# Altium footprint library MAX31856MUD.PcbLib: 1 footprints
Each footprint in its own frame and in the unit in brackets; x right, y up, seen from the top. Pads: shape width x height; smd on the part's side, far side on the other; paste and mask are expansions set on the pad; w line width, h text height; cw(c..) or ccw(c..) is an arc to the next point about the centre after c.
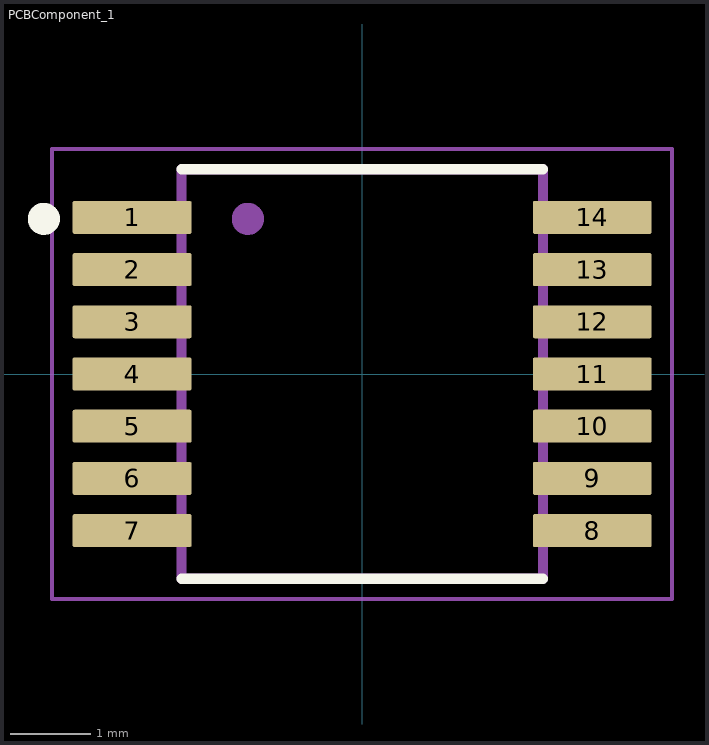
[diagram p0: the footprint, top view; thin cyan lines are the x and y axes]

## PCBComponent_1 [mm]
pads (14):
  rrect10% 1.48x0.41 smd: 1(-2.865,1.95) 2(-2.865,1.3) 3(-2.865,0.65) 4(-2.865,0) 5(-2.865,-0.65) 6(-2.865,-1.3) 7(-2.865,-1.95) 8(2.865,-1.95) 9(2.865,-1.3) 10(2.865,-0.65) 11(2.865,0) 12(2.865,0.65) 13(2.865,1.3) 14(2.865,1.95)
Top Overlay:
  circle w0.2: c-3.964,1.932 r0.1
  lines w0.127: -2.25,-2.55 2.25,-2.55 ; -2.25,2.55 2.25,2.55
Mechanical 13:
  circle w0.2: c-1.424,1.932 r0.1
  lines w0.127: -2.25,-2.55 2.25,-2.55 2.25,2.55 -2.25,2.55 -2.25,-2.55
Mechanical 15:
  lines w0.05: -3.86,-2.8 3.86,-2.8 3.86,2.8 -3.86,2.8 -3.86,-2.8
3D body "MAX31856MUD+--3DModel-STEP-56544.STEP": height 1.1, standoff 0, extent -3.2,-2.5 3.2,2.5